# Altium footprint library JST_B2P-VH(LF)(SN).PcbLib: 1 footprints
Each footprint in its own frame and in the unit in brackets; x right, y up, seen from the top. Pads: shape width x height; smd on the part's side, far side on the other; paste and mask are expansions set on the pad; w line width, h text height; cw(c..) or ccw(c..) is an arc to the next point about the centre after c.
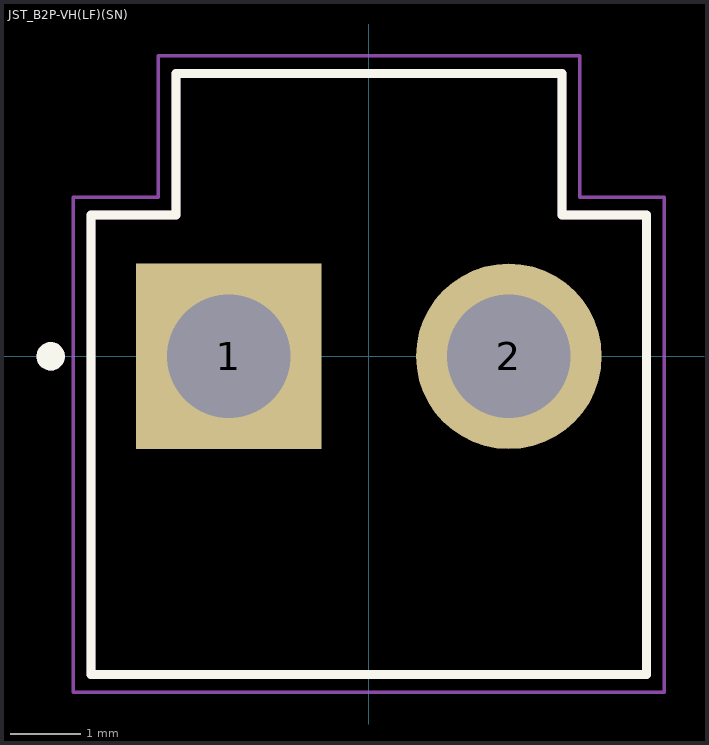
[diagram p0: the footprint, top view; thin cyan lines are the x and y axes]

## JST_B2P-VH(LF)(SN) [mm]
height 10.9
pads (2):
  rect 2.625x2.625 / inner round 2.625 / far side rect 2.625x2.625 hole 1.75: 1(-1.98,0)
  round 2.625 hole 1.75: 2(1.98,0)
Top Overlay:
  circle w0.2: c-4.5,0 r0.1
  lines w0.127: -3.93,-4.5 -3.93,2 -2.73,2 -2.73,4 2.73,4 2.73,2 3.93,2 3.93,-4.5 -3.93,-4.5
Assembly Top:
  circle w0.2: c-4.5,0 r0.1
  lines w0.127: -3.93,-4.5 -3.93,2 -2.73,2 -2.73,4 2.73,4 2.73,2 3.93,2 3.93,-4.5 -3.93,-4.5
Courtyard Top:
  lines w0.05: -4.18,-4.75 -4.18,2.25 -2.98,2.25 -2.98,4.25 2.98,4.25 2.98,2.25 4.18,2.25 4.18,-4.75 -4.18,-4.75
3D body "step_temp.STEP": height 10.9, standoff -3.7, extent -3.93,-4.5 3.93,4